# Altium footprint library salih_pcb.PcbLib: 32 footprints (part 1 of 2)
Each footprint in its own frame and in the unit in brackets; x right, y up, seen from the top. Pads: shape width x height; smd on the part's side, far side on the other; paste and mask are expansions set on the pad; w line width, h text height; cw(c..) or ccw(c..) is an arc to the next point about the centre after c.
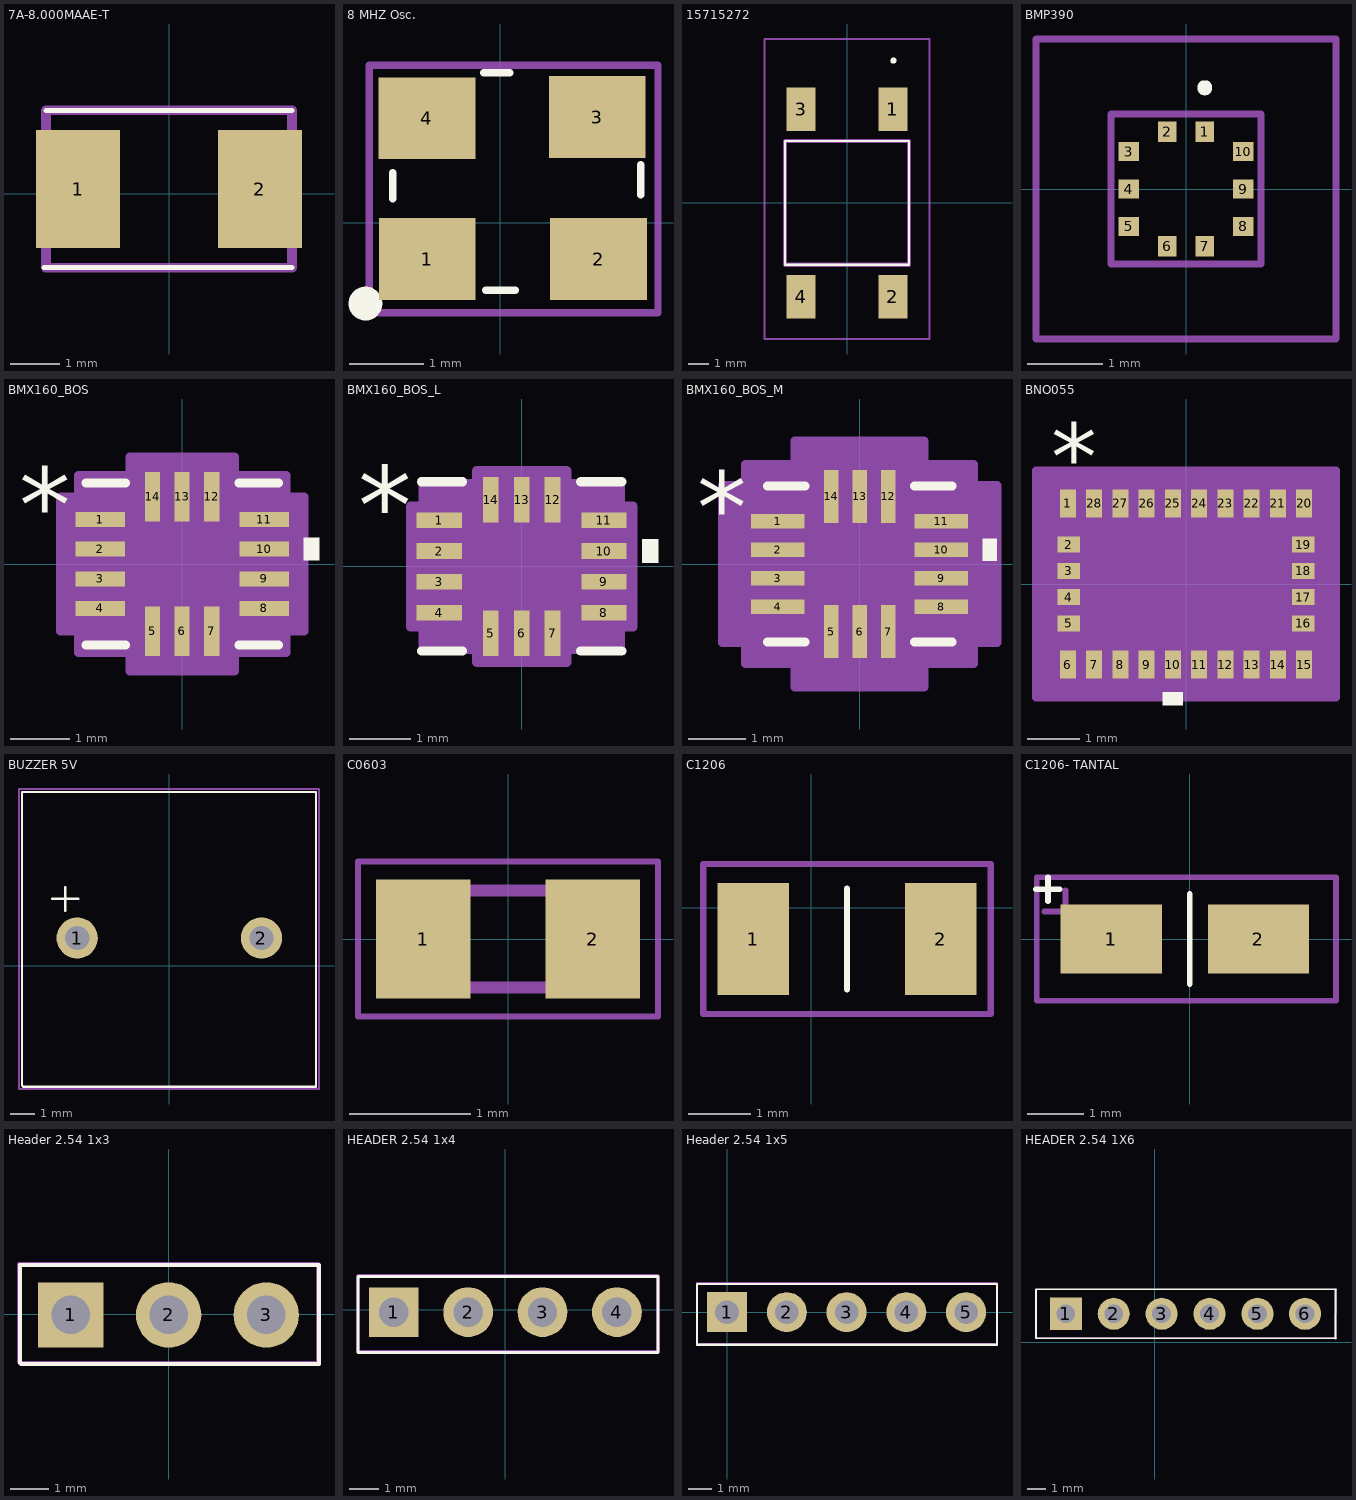
[diagram p0: the footprints below, top view; thin cyan lines are the x and y axes]

## 7A-8.000MAAE-T [mm]
pads (2):
  rect 1.7x2.4 smd: 1(-1.856,0.097) 2(1.844,0.097)
Top Overlay:
  lines w0.1: -2.546,-1.503 2.494,-1.503 -2.546,-1.503 ; -2.506,1.697 2.494,1.697 -2.506,1.697
Mechanical 15:
  lines w0.2: -2.506,-1.503 -2.506,1.697 2.494,1.697 2.494,-1.503 -2.506,-1.503
3D body "7A-8.000MAAE-T.stp": height 1.45, standoff 0, extent -2.53,-1.5 2.53,1.7

## 8 MHZ Osc. [mm]
pads (4):
  rect 1.3x1.1 smd mask+0.05: 1(-0.981,-0.49) 2(1.319,-0.49) 3(1.303,1.417) 4(-0.986,1.401)
Top Overlay:
  circle w0.254: c-1.812,-1.089 r0.1
  lines w0.1: -1.445,0.318 -1.445,0.672 ; -0.224,2.01 0.13,2.01 ; -0.199,-0.911 0.201,-0.911 ; 1.884,0.376 1.884,0.776
Mechanical 3:
  circle w0.254: c-1.216,-0.524 r0.1
  lines w0.1: -1.761,-1.211 2.118,-1.211 2.118,2.113 -1.761,2.113 -1.761,-1.211
3D body "ASE3.STEP": height 1.22, standoff -0.03, extent -1.379,-0.641 1.821,1.859

## 15715272 [mm]
pads (4):
  rect 1.4x2.1 smd: 1(2.23,4.55) 2(2.23,-4.55) 3(-2.23,4.55) 4(-2.23,-4.55)
Top Overlay:
  lines w0.1: -3,-3 -3,3 3,3 3,-3 -3,-3
  lines w0.2: 2.2,6.9 ccw(c2.25,6.9) 2.3,6.9 ; 2.2,6.9 cw(c2.25,6.9) 2.3,6.9 ; 2.2,6.9 ccw(c2.25,6.9) 2.3,6.9
Mechanical 13:
  lines w0.2: -3,-3 -3,3 3,3 3,-3 -3,-3
Mechanical 15:
  lines w0.1: -4,-6.6 -4,7.95 4,7.95 4,-6.6 -4,-6.6
3D body "1571527-2.stp": height 4.38, standoff 0, extent -3,-5 3,5

## BMP390 [mm]
pads (10):
  rect 0.25x0.275 smd mask+0.07: 1(0.25,0.763) 2(-0.25,0.763) 6(-0.25,-0.763) 7(0.25,-0.763)
  rect 0.275x0.25 smd mask+0.07: 3(-0.762,0.5) 4(-0.762,0) 5(-0.762,-0.5) 8(0.762,-0.5) 9(0.762,0) 10(0.762,0.5)
Top Overlay:
  lines w0.1: 0.25,1.3 cw(c0.25,1.35) 0.25,1.4 cw(c0.25,1.35) 0.25,1.3
Mechanical 13:
  lines w0.1: -1,-1 1,-1 1,1 -1,1 -1,-1
Mechanical 15:
  lines w0.1: -2,-2 2,-2 2,2 -2,2 -2,-2
3D body "BMP390.stp": height 0.75, standoff 0, extent -1,-1.111 1,0.889

## BMX160_BOS [mil]
pads (14):
  rect 33x10 smd paste+0 mask+0: 1(-54.56,29.53) 2(-54.56,9.84) 3(-54.56,-9.84) 4(-54.56,-29.53) 8(54.56,-29.53) 9(54.56,-9.84) 10(54.56,9.84) 11(54.56,29.53)
  rect 10x33 smd paste+0 mask+0: 5(-19.68,-44.71) 6(0,-44.71) 7(19.68,-44.71) 12(19.68,44.71) 13(0,44.71) 14(-19.68,44.71)
Top Overlay:
  region: 81.06,17.34 91.06,17.34 91.06,2.34 81.06,2.34
  lines w6: -64,-54 -37.78,-54 ; -64,54 -37.78,54 ; 37.78,-54 64,-54 ; 37.78,54 64,54
  text "*" at -108.56,14.37 h50
Mechanical 13:
  lines w1: -59,-1 -9,49 ; -59.06,-35.53 -59,-35.53 -59,-23.53 -59.06,-23.53 -59.06,-35.53 ; -59.06,-15.84 -59,-15.84 -59,-3.84 -59.06,-3.84 -59.06,-15.84 ; -59.06,3.84 -59,3.84 -59,15.84 -59.06,15.84 -59.06,3.84 ; -59.06,23.53 -59,23.53 -59,35.53 -59.06,35.53 -59.06,23.53 ; -59,-49 -59,49 59,49 59,-49 -59,-49 ; -25.68,-49.21 -13.69,-49.21 -13.69,-49 -25.68,-49 -25.68,-49.21 ; -25.68,49 -25.68,49.21 -13.69,49.21 -13.69,49 -25.68,49 ; -6,-49.21 6,-49.21 6,-49 -6,-49 -6,-49.21 ; -6,49 -6,49.21 6,49.21 6,49 -6,49 ; 13.69,-49.21 25.68,-49.21 25.68,-49 13.69,-49 13.69,-49.21 ; 13.69,49 13.69,49.21 25.68,49.21 25.68,49 13.69,49 ; 59,-35.53 59.06,-35.53 59.06,-23.53 59,-23.53 59,-35.53 ; 59,-15.84 59.06,-15.84 59.06,-3.84 59,-3.84 59,-15.84 ; 59,3.84 59.06,3.84 59.06,15.84 59,15.84 59,3.84 ; 59,23.53 59.06,23.53 59.06,35.53 59,35.53 59,23.53
  text "*" at -50.56,14.37 h50
Mechanical 15:
  region: -34.69,-59 -69,-59 -69,-44.53 -81.06,-44.53 -81.06,44.53 -69,44.53 -69,59 -34.69,59 -34.69,71.21 34.69,71.21 34.69,59 69,59 69,44.53 81.06,44.53 81.06,-44.53 69,-44.53 69,-59 34.69,-59 34.69,-71.21 -34.69,-71.21
  lines w6: -81.06,-44.53 -81.06,44.53 -69,44.53 -69,59 -34.69,59 -34.69,71.21 34.69,71.21 34.69,59 69,59 69,44.53 81.06,44.53 81.06,-44.53 69,-44.53 69,-59 34.69,-59 34.69,-71.21 -34.69,-71.21 -34.69,-59 -69,-59 -69,-44.53 -81.06,-44.53
3D body "BMX160_BOS.step": height 39.09, standoff 0, extent -59.06,-49.21 59.06,49.21

## BMX160_BOS_L [mil]
pads (14):
  rect 29x10 smd paste+0 mask+0: 1(-52.56,29.53) 2(-52.56,9.84) 3(-52.56,-9.84) 4(-52.56,-29.53) 8(52.56,-29.53) 9(52.56,-9.84) 10(52.56,9.84) 11(52.56,29.53)
  rect 10x29 smd paste+0 mask+0: 5(-19.68,-42.71) 6(0,-42.71) 7(19.68,-42.71) 12(19.68,42.71) 13(0,42.71) 14(-19.68,42.71)
Top Overlay:
  region: 77.06,17.34 87.06,17.34 87.06,2.34 77.06,2.34
  lines w6: -64,-54 -37.78,-54 ; -64,54 -37.78,54 ; 37.78,-54 64,-54 ; 37.78,54 64,54
  text "*" at -104.56,14.37 h50
Mechanical 13:
  lines w1: -59,-1 -9,49 ; -59.06,-35.53 -59.06,-23.53 -59,-23.53 -59,-35.53 -59.06,-35.53 ; -59.06,-15.84 -59.06,-3.84 -59,-3.84 -59,-15.84 -59.06,-15.84 ; -59.06,3.84 -59.06,15.84 -59,15.84 -59,3.84 -59.06,3.84 ; -59.06,23.53 -59.06,35.53 -59,35.53 -59,23.53 -59.06,23.53 ; -59,-49 59,-49 59,49 -59,49 -59,-49 ; -25.68,-49.21 -25.68,-49 -13.69,-49 -13.69,-49.21 -25.68,-49.21 ; -25.68,49 -13.69,49 -13.69,49.21 -25.68,49.21 -25.68,49 ; -6,-49.21 -6,-49 6,-49 6,-49.21 -6,-49.21 ; -6,49 6,49 6,49.21 -6,49.21 -6,49 ; 13.69,-49.21 13.69,-49 25.68,-49 25.68,-49.21 13.69,-49.21 ; 13.69,49 25.68,49 25.68,49.21 13.69,49.21 13.69,49 ; 59,-35.53 59,-23.53 59.06,-23.53 59.06,-35.53 59,-35.53 ; 59,-15.84 59,-3.84 59.06,-3.84 59.06,-15.84 59,-15.84 ; 59,3.84 59,15.84 59.06,15.84 59.06,3.84 59,3.84 ; 59,23.53 59,35.53 59.06,35.53 59.06,23.53 59,23.53
  text "*" at -50.56,14.37 h50
Mechanical 15:
  region: -28.68,-53 -63,-53 -63,-38.53 -71.06,-38.53 -71.06,38.53 -63,38.53 -63,53 -28.68,53 -28.68,61.21 28.68,61.21 28.68,53 63,53 63,38.53 71.06,38.53 71.06,-38.53 63,-38.53 63,-53 28.68,-53 28.68,-61.21 -28.68,-61.21
  lines w6: -71.06,-38.53 -63,-38.53 -63,-53 -28.68,-53 -28.68,-61.21 28.68,-61.21 28.68,-53 63,-53 63,-38.53 71.06,-38.53 71.06,38.53 63,38.53 63,53 28.68,53 28.68,61.21 -28.68,61.21 -28.68,53 -63,53 -63,38.53 -71.06,38.53 -71.06,-38.53
3D body "BMX160_BOS.step": height 39.09, standoff 0, extent -59.06,-49.21 59.06,49.21

## BMX160_BOS_M [mil]
pads (14):
  rect 37x10 smd paste+0 mask+0: 1(-56.56,29.53) 2(-56.56,9.84) 3(-56.56,-9.84) 4(-56.56,-29.53) 8(56.56,-29.53) 9(56.56,-9.84) 10(56.56,9.84) 11(56.56,29.53)
  rect 10x37 smd paste+0 mask+0: 5(-19.68,-46.71) 6(0,-46.71) 7(19.68,-46.71) 12(19.68,46.71) 13(0,46.71) 14(-19.68,46.71)
Top Overlay:
  region: 85.06,17.34 95.06,17.34 95.06,2.34 85.06,2.34
  lines w6: -64,-54 -37.78,-54 ; -64,54 -37.78,54 ; 37.78,-54 64,-54 ; 37.78,54 64,54
  text "*" at -112.56,14.37 h50
Mechanical 13:
  lines w1: -59,-1 -9,49 ; -59.06,-35.53 -59,-35.53 -59,-23.53 -59.06,-23.53 -59.06,-35.53 ; -59.06,-15.84 -59,-15.84 -59,-3.84 -59.06,-3.84 -59.06,-15.84 ; -59.06,3.84 -59,3.84 -59,15.84 -59.06,15.84 -59.06,3.84 ; -59.06,23.53 -59,23.53 -59,35.53 -59.06,35.53 -59.06,23.53 ; -59,-49 -59,49 59,49 59,-49 -59,-49 ; -25.68,-49.21 -13.69,-49.21 -13.69,-49 -25.68,-49 -25.68,-49.21 ; -25.68,49 -25.68,49.21 -13.69,49.21 -13.69,49 -25.68,49 ; -6,-49.21 6,-49.21 6,-49 -6,-49 -6,-49.21 ; -6,49 -6,49.21 6,49.21 6,49 -6,49 ; 13.69,-49.21 25.68,-49.21 25.68,-49 13.69,-49 13.69,-49.21 ; 13.69,49 13.69,49.21 25.68,49.21 25.68,49 13.69,49 ; 59,-35.53 59.06,-35.53 59.06,-23.53 59,-23.53 59,-35.53 ; 59,-15.84 59.06,-15.84 59.06,-3.84 59,-3.84 59,-15.84 ; 59,3.84 59.06,3.84 59.06,15.84 59,15.84 59,3.84 ; 59,23.53 59.06,23.53 59.06,35.53 59,35.53 59,23.53
  text "*" at -50.56,14.37 h50
Mechanical 15:
  region: -44.69,-69 -79,-69 -79,-54.53 -95.06,-54.53 -95.06,54.53 -79,54.53 -79,69 -44.69,69 -44.69,85.21 44.69,85.21 44.69,69 79,69 79,54.53 95.06,54.53 95.06,-54.53 79,-54.53 79,-69 44.69,-69 44.69,-85.21 -44.69,-85.21
  lines w6: -95.06,-54.53 -95.06,54.53 -79,54.53 -79,69 -44.69,69 -44.69,85.21 44.69,85.21 44.69,69 79,69 79,54.53 95.06,54.53 95.06,-54.53 79,-54.53 79,-69 44.69,-69 44.69,-85.21 -44.69,-85.21 -44.69,-69 -79,-69 -79,-54.53 -95.06,-54.53
3D body "BMX160_BOS.step": height 39.09, standoff 0, extent -59.06,-49.21 59.06,49.21

## BNO055 [mil]
pads (28):
  rect 12x21 smd paste+0 mask+0: 1(-88.58,60.5) 6(-88.58,-60.5) 7(-68.9,-60.5) 8(-49.21,-60.5) 9(-29.53,-60.5) 10(-9.84,-60.5) 11(9.84,-60.5) 12(29.53,-60.5) 13(49.21,-60.5) 14(68.9,-60.5) 15(88.58,-60.5) 20(88.58,60.5) 21(68.9,60.5) 22(49.21,60.5) 23(29.53,60.5) 24(9.84,60.5) 25(-9.84,60.5) 26(-29.53,60.5) 27(-49.21,60.5) 28(-68.9,60.5)
  rect 17x12 smd paste-8.5 mask-8.5: 2(-88,29.53) 3(-88,9.84) 4(-88,-9.84) 5(-88,-29.53) 16(88,-29.53) 17(88,-9.84) 18(88,9.84) 19(88,29.53)
Top Overlay:
  region: -2.34,-81 -17.34,-81 -17.34,-91 -2.34,-91
  text "*" at -101.08,71 h50
Mechanical 13:
  lines w1: -102.5,25 -52.5,75 ; -102.5,-75 -102.5,75 102.5,75 102.5,-75 -102.5,-75 ; -102.5,-35.53 -96.5,-35.53 -96.5,-23.53 -102.5,-23.53 -102.5,-35.53 ; -102.5,-15.84 -96.5,-15.84 -96.5,-3.84 -102.5,-3.84 -102.5,-15.84 ; -102.5,3.84 -96.5,3.84 -96.5,15.84 -102.5,15.84 -102.5,3.84 ; -102.5,23.53 -96.5,23.53 -96.5,35.53 -102.5,35.53 -102.5,23.53 ; -94.58,-75 -94.58,-71 -82.58,-71 -82.58,-75 -94.58,-75 ; -94.58,71 -94.58,75 -82.58,75 -82.58,71 -94.58,71 ; -74.9,-75 -74.9,-71 -62.9,-71 -62.9,-75 -74.9,-75 ; -74.9,71 -74.9,75 -62.9,75 -62.9,71 -74.9,71 ; -55.21,-75 -55.21,-71 -43.21,-71 -43.21,-75 -55.21,-75 ; -55.21,71 -55.21,75 -43.21,75 -43.21,71 -55.21,71 ; -35.53,-75 -35.53,-71 -23.53,-71 -23.53,-75 -35.53,-75 ; -35.53,71 -35.53,75 -23.53,75 -23.53,71 -35.53,71 ; -15.84,-75 -15.84,-71 -3.84,-71 -3.84,-75 -15.84,-75 ; -15.84,71 -15.84,75 -3.84,75 -3.84,71 -15.84,71 ; 3.84,-75 3.84,-71 15.84,-71 15.84,-75 3.84,-75 ; 3.84,71 3.84,75 15.84,75 15.84,71 3.84,71 ; 23.53,-75 23.53,-71 35.53,-71 35.53,-75 23.53,-75 ; 23.53,71 23.53,75 35.53,75 35.53,71 23.53,71 ; 43.21,-75 43.21,-71 55.21,-71 55.21,-75 43.21,-75 ; 43.21,71 43.21,75 55.21,75 55.21,71 43.21,71 ; 62.9,-75 62.9,-71 74.9,-71 74.9,-75 62.9,-75 ; 62.9,71 62.9,75 74.9,75 74.9,71 62.9,71 ; 82.58,-75 82.58,-71 94.58,-71 94.58,-75 82.58,-75 ; 82.58,71 82.58,75 94.58,75 94.58,71 82.58,71 ; 96.5,-35.53 96.5,-23.53 102.5,-23.53 102.5,-35.53 96.5,-35.53 ; 96.5,-15.84 96.5,-3.84 102.5,-3.84 102.5,-15.84 96.5,-15.84 ; 96.5,3.84 96.5,15.84 102.5,15.84 102.5,3.84 96.5,3.84 ; 96.5,23.53 96.5,35.53 102.5,35.53 102.5,23.53 96.5,23.53
  text "*" at -101.08,25 h50
Mechanical 15:
  region: -84.9,-85 -112.5,-85 -112.5,-45.53 -112.5,45.53 -112.5,85 -84.9,85 84.9,85 112.5,85 112.5,45.53 112.5,-45.53 112.5,-85 84.9,-85
  lines w6: -112.5,-85 -84.9,-85 84.9,-85 112.5,-85 112.5,-45.53 112.5,45.53 112.5,85 84.9,85 -84.9,85 -112.5,85 -112.5,45.53 -112.5,-45.53 -112.5,-85
3D body "BNO055.step": height 31.46, standoff -15, extent -102.36,-74.8 102.36,74.8

## BUZZER 5V [mm]
pads (2):
  round 1.7 hole 1 mask+0.05: 1(-3.8,1.143) 2(3.8,1.143)
Top Overlay:
  lines w0.1: -4.825,2.768 -3.75,2.768 ; -4.3,2.268 -4.3,3.243 ; -6.075,-4.932 -6.025,-4.982 6.05,-4.982 6.05,7.168 -6.075,7.168 -6.075,-4.932
Mechanical 3:
  lines w0.1: -6.2,-5.082 6.175,-5.082 6.175,7.293 -6.2,7.293 -6.2,-5.082
3D body "cem-1205c.stp": height 9.5, standoff -4.5, extent -6,-4.984 6,7.016

## C0603 [mm] "Ceramic Capacitor 1206"
pads (2):
  rect 0.78x0.98 smd: 1(-0.7,0) 2(0.7,0)
Mechanical 13:
  lines w0.1: -0.8,-0.4 0.8,-0.4 0.8,0.4 -0.8,0.4 -0.8,-0.4
Mechanical 15:
  lines w0.05: -1.24,-0.64 1.24,-0.64 1.24,0.64 -1.24,0.64 -1.24,-0.64
3D body "C0603C222JATACAUTO.stp": height 0.92, standoff 0, extent -0.87,-0.48 0.88,0.47

## C1206 [mm] "Ceramic Capacitor 1206"
pads (2):
  rect 1.15x1.8 smd mask+0.05: 1(-0.925,-0.5) 2(2.075,-0.5)
Top Overlay:
  lines w0.1: 0.575,-1.305 0.575,0.305
Mechanical 3:
  lines w0.1: -1.725,-1.7 2.875,-1.7 2.875,0.7 -1.725,0.7 -1.725,-1.7
3D body "1206CAP.step": height 1, standoff 0, extent -1.025,-1.3 2.175,0.3

## C1206- TANTAL [mm] "Tantal Capacitor 1206"
pads (3):
  rect 1.8x1.23 smd mask+0.05: 1(-1.4,0) 1(-1.4,0) 2(1.22,0)
Top Overlay:
  lines w0.1: -2.738,0.888 -2.313,0.888 ; -2.525,0.675 -2.525,1.1 ; 0,-0.8 0,0.8
Mechanical 3:
  lines w0.1: -2.594,0.489 -1.832,0.489 ; -2.213,0.108 -2.213,0.87 ; -2.725,-1.1 2.6,-1.1 2.6,1.1 -2.725,1.1 -2.725,-1.1
3D body "User Library-CaseA_3216-18.step": height 1.62, standoff 0.02, extent -1.7,-0.8 1.5,0.8

## Header 2.54 1x3 [mm]
pads (3):
  rect 1.7x1.7 hole 1 mask+0.05: 1(-2.54,-0.025)
  round 1.7 hole 1 mask+0.05: 2(0,-0.025) 3(2.54,-0.025)
Top Overlay:
  lines w0.1: -3.865,-1.275 -3.865,1.275 3.91,1.275 3.91,-1.3 -3.84,-1.3 -3.865,-1.275
Mechanical 3:
  lines w0.1: -3.89,-1.25 -3.865,-1.275 3.885,-1.275 3.885,1.3 -3.89,1.3 -3.89,-1.25
3D body "User Library-ZL262-3SG.step": height 9.1, standoff -2.45, extent -3.8,-1.275 3.82,1.225

## HEADER 2.54 1x4 [mm]
pads (4):
  rect 1.7x1.7 hole 1 mask+0.05: 1(-3.802,-0.09)
  round 1.7 hole 1 mask+0.05: 2(-1.262,-0.09) 3(1.278,-0.09) 4(3.818,-0.09)
Top Overlay:
  lines w0.1: -5.027,-1.465 5.223,-1.465 5.223,1.135 -5.027,1.135 -5.027,-1.465
Mechanical 3:
  lines w0.1: -5.027,-1.44 -5.027,1.16 5.223,1.16 5.223,-1.44 -5.027,-1.44
3D body "User Library-ZL262-4SG.step": height 9.1, standoff -2.45, extent -4.982,-1.415 5.178,1.085

## Header 2.54 1x5 [mm] "1x5 Dişi Header (2.54mm)"
pads (5):
  rect 1.7x1.7 hole 1 mask+0.05: 1(0,0)
  round 1.7 hole 1 mask+0.05: 2(2.54,0) 3(5.08,0) 4(7.62,0) 5(10.16,0)
Top Overlay:
  lines w0.1: -1.275,-1.375 11.475,-1.375 11.475,1.2 -1.275,1.2 -1.275,-1.375
Mechanical 3:
  lines w0.1: -1.275,-1.35 11.475,-1.35 11.475,1.225 -1.275,1.225 -1.275,-1.35
3D body "User Library-ZL262-5SG (1).step": height 9.1, standoff -2.45, extent -1.25,-1.3 11.45,1.2

## HEADER 2.54 1X6 [mm]
pads (6):
  rect 1.7x1.7 hole 1 mask+0.05: 1(-4.72,1.5)
  round 1.7 hole 1 mask+0.05: 2(-2.18,1.5) 3(0.36,1.5) 4(2.9,1.5) 5(5.44,1.5) 6(7.96,1.5)
Top Overlay:
  lines w0.1: -6.3,0.2 9.6,0.2 ; -6.3,0.207 -6.3,2.8 9.6,2.8 ; 9.587,0.177 9.587,2.77
Mechanical 3:
  lines w0.1: -6.3,0.2 9.6,0.2 ; -6.3,0.207 -6.3,2.8 ; 9.581,0.216 9.604,2.8
3D body "SSW-106-01-L-S.stp": height 8.51, standoff -2.64, extent -6.2,0.287 9.548,2.7